# Altium schematic symbol library JWpulsegen-V3.SCHLIB: 14 symbols
Pins are listed as number, name and electrical type; pins without a type are passive.

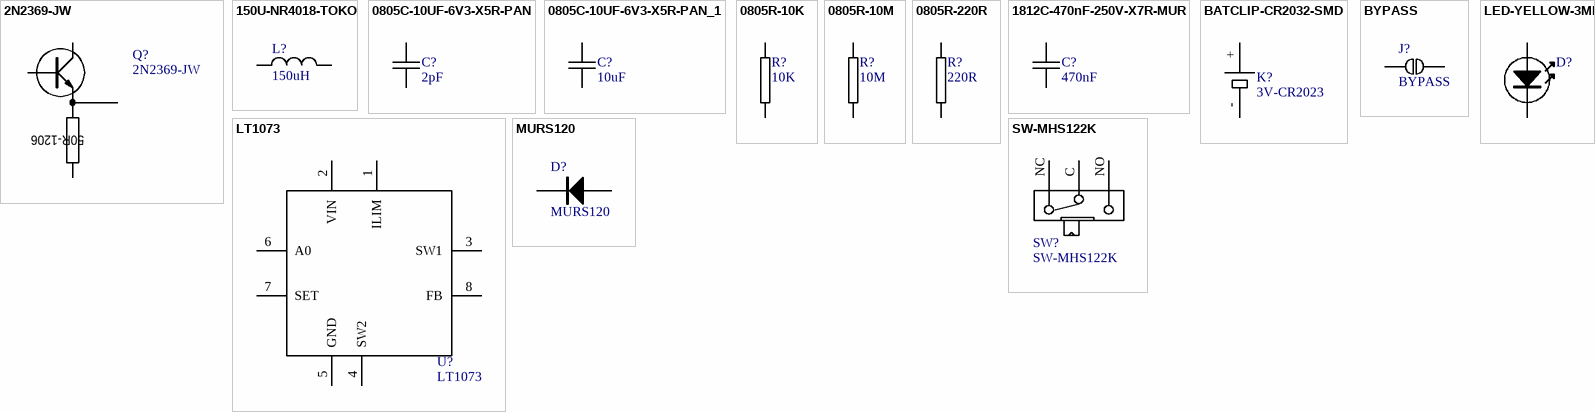
[diagram p0: symbols 2N2369-JW to SW-MHS122K]

## 2N2369-JW
designator Q?
Supplier 1: Mouser; Supplier Part Number 1: 610-2N2369A
footprint JW2N2369 (Footprint not found)
pins: B, C, G
text: 50R-1206

## 150U-NR4018-TOKO
designator L?, comment 150uH
Supplier 1: Mouser; Supplier Part Number 1: 963-NR4018T151M
footprint TOKO-NR4018 (TOKO INDUCTOR NR4018 SERIES)
pins: 1, 2

## 0805C-10UF-6V3-X5R-PAN
designator C?, comment 2pF
CAPACITOR 0805 CERAMIC; Manufacturer: Panasonic - ECG; Manufacturer Part Number: ECJ-2FB0J106M; Reel: C1; Capacitance: 10µF; Voltage - Rated: 6.3V; Temperature Coefficient: X5R; Tolerance: ±20%; Supplier 1: Digi-Key; Supplier Part Number 1: PCC2225TR-ND; Supplier: Digi-Key; Operating Temperature: -55°C ~ 85°C; Mounting Type: Surface Mount, MLCC; Lead Spacing: -; RoHS: RoHS Compliant; Packaging: Tape & Reel (TR); Thickness: 1.25mm; Package / Case: 0805 (2012 metric); Features: General Purpose; Category: Capacitors; Supplier Part Number: PCC2225TR-ND
footprint 0805C-GENERIC (CAPACITOR 0805)
pins: 1, 2

## 0805C-10UF-6V3-X5R-PAN_1
designator C?, comment 10uF
CAPACITOR 0805 CERAMIC; Manufacturer: Panasonic - ECG; Manufacturer Part Number: ECJ-2FB0J106M; Reel: C1; Capacitance: 10µF; Voltage - Rated: 6.3V; Temperature Coefficient: X5R; Tolerance: ±20%; Supplier 1: Digi-Key; Supplier Part Number 1: PCC2225TR-ND; Supplier: Digi-Key; Operating Temperature: -55°C ~ 85°C; Mounting Type: Surface Mount, MLCC; Lead Spacing: -; RoHS: RoHS Compliant; Packaging: Tape & Reel (TR); Thickness: 1.25mm; Package / Case: 0805 (2012 metric); Features: General Purpose; Category: Capacitors; Supplier Part Number: PCC2225TR-ND
footprint 0805C-GENERIC (CAPACITOR 0805)
pins: 1, 2

## 0805R-10K
designator R?, comment 10K
RESISTOR 0805 1/4 WATT THIN FILM; Reel: *
footprint 0805R-10K (RESISTOR 0805)
pins: 1, 2

## 0805R-10M
designator R?, comment 10M
RESISTOR 0805 VALUE TO BE DETERMINED; Supplier 1: Digi-Key; Supplier Part Number 1: HVCB0805FKD10M0-ND
footprint 0805R-TBD (RESISTOR 0805 VALUE TO BE DETERMINED)
pins: 1, 2

## 0805R-220R
designator R?, comment 220R
RESISTOR 0805 1/4 WATT THIN FILM; Reel: *
footprint 0805R-220 (RESISTOR 0805)
pins: 1, 2

## 1812C-470nF-250V-X7R-MUR
designator C?, comment 470nF
CAPACITOR 1812 CERAMIC; Supplier 1: Digi-Key; Supplier Part Number 1: 490-3549-1-ND
footprint 1812C-GENERIC
pins: 1, 2

## BATCLIP-CR2032-SMD
designator K?, comment 3V-CR2023
BU2032SM-HD-G; Supplier 1: Digi-Key; Supplier Part Number 1: BU2032SM-HD-GDKR-ND
footprint BATCLIP-CR2032 (BATTERY CLIP 2032 SMD)
pins: +, -

## BYPASS
designator J?
SOLDERDOT BYPASS; Manufacturer Part Number 1: Board Feature; Reel: Open; Supplier 1: Solder-it-yourself; Manufacturer 1: Board feature
footprint BYPASS
pins: 1, 2

## LED-YELLOW-3MM
designator D?  (value not drawn)
footprint LED-3MM-YELLOW
pins: A, K

## LT1073
designator U?
footprint SO8
pins: 1 ILIM, 2 VIN, 3 SW1, 4 SW2, 5 GND, 6 A0, 7 SET, 8 FB

## MURS120
designator D?
DIODE; Supplier 1: Digi-Key; Supplier Part Number 1: MURS120-E3/52TGITR-ND
footprint DIODE-SMB
pins: A, K

## SW-MHS122K
designator SW?
SWITCH DPDT; Supplier 1: Digi-Key; Supplier Part Number 1: 679-1866-ND
footprint MHS122K
pins: C, NC NC2, NO